# Altium footprint library LED.PcbLib: 1 footprints
Each footprint in its own frame and in the unit in brackets; x right, y up, seen from the top. Pads: shape width x height; smd on the part's side, far side on the other; paste and mask are expansions set on the pad; w line width, h text height; cw(c..) or ccw(c..) is an arc to the next point about the centre after c.
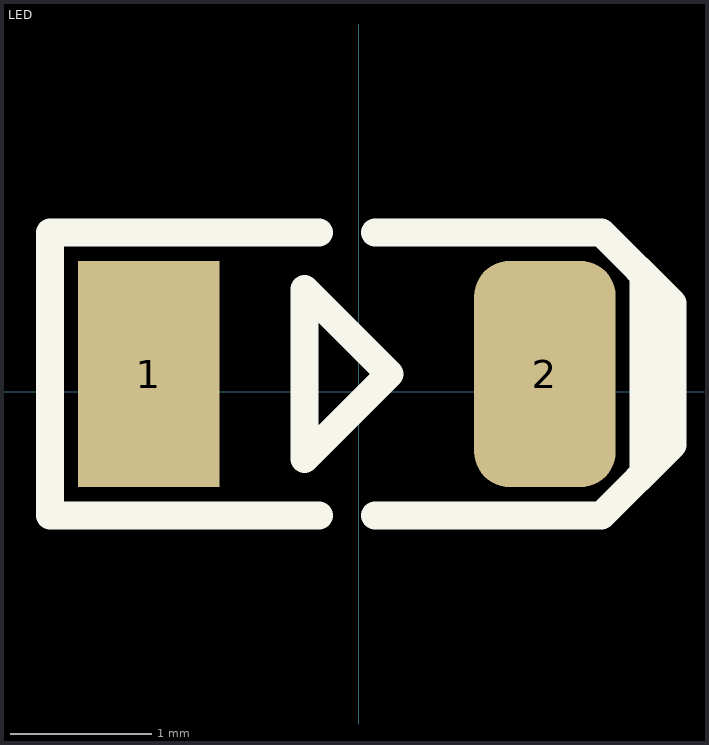
[diagram p0: the footprint, top view; thin cyan lines are the x and y axes]

## LED [mm]
pads (2):
  rect 1x1.6 smd mask+0.102: 1(-1.484,0.127)
  rrect50% 1x1.6 smd mask+0.075: 2(1.316,0.127)
Top Overlay:
  region: 1.916,0.827 1.916,-0.573 2.216,-0.273 2.216,0.527
  lines w0.2: -0.284,-0.873 -2.184,-0.873 -2.184,1.127 -0.284,1.127 ; 0.116,-0.873 1.716,-0.873 2.216,-0.373 2.216,0.627 1.716,1.127 0.116,1.127 ; -0.384,-0.473 -0.384,0.727 0.216,0.127 -0.384,-0.473
3D body "User Library-Wurth Elektronik WL-SMCW 1206 (3216) LED Lens (Separate Body).step": height 0.68, standoff 0.28, extent -1.084,-0.673 0.916,0.927
3D body "User Library-Wurth Elektronik WL-SMCW 1206 (3216) LED Base (Separate Lens).step": height 0.62, standoff 0, extent -1.684,-0.673 1.516,0.927